# Altium footprint library adafruit.PCBLIB: 630 footprints (part 4 of 40)
Each footprint in its own frame and in the unit in brackets; x right, y up, seen from the top. Pads: shape width x height; smd on the part's side, far side on the other; paste and mask are expansions set on the pad; w line width, h text height; cw(c..) or ccw(c..) is an arc to the next point about the centre after c.
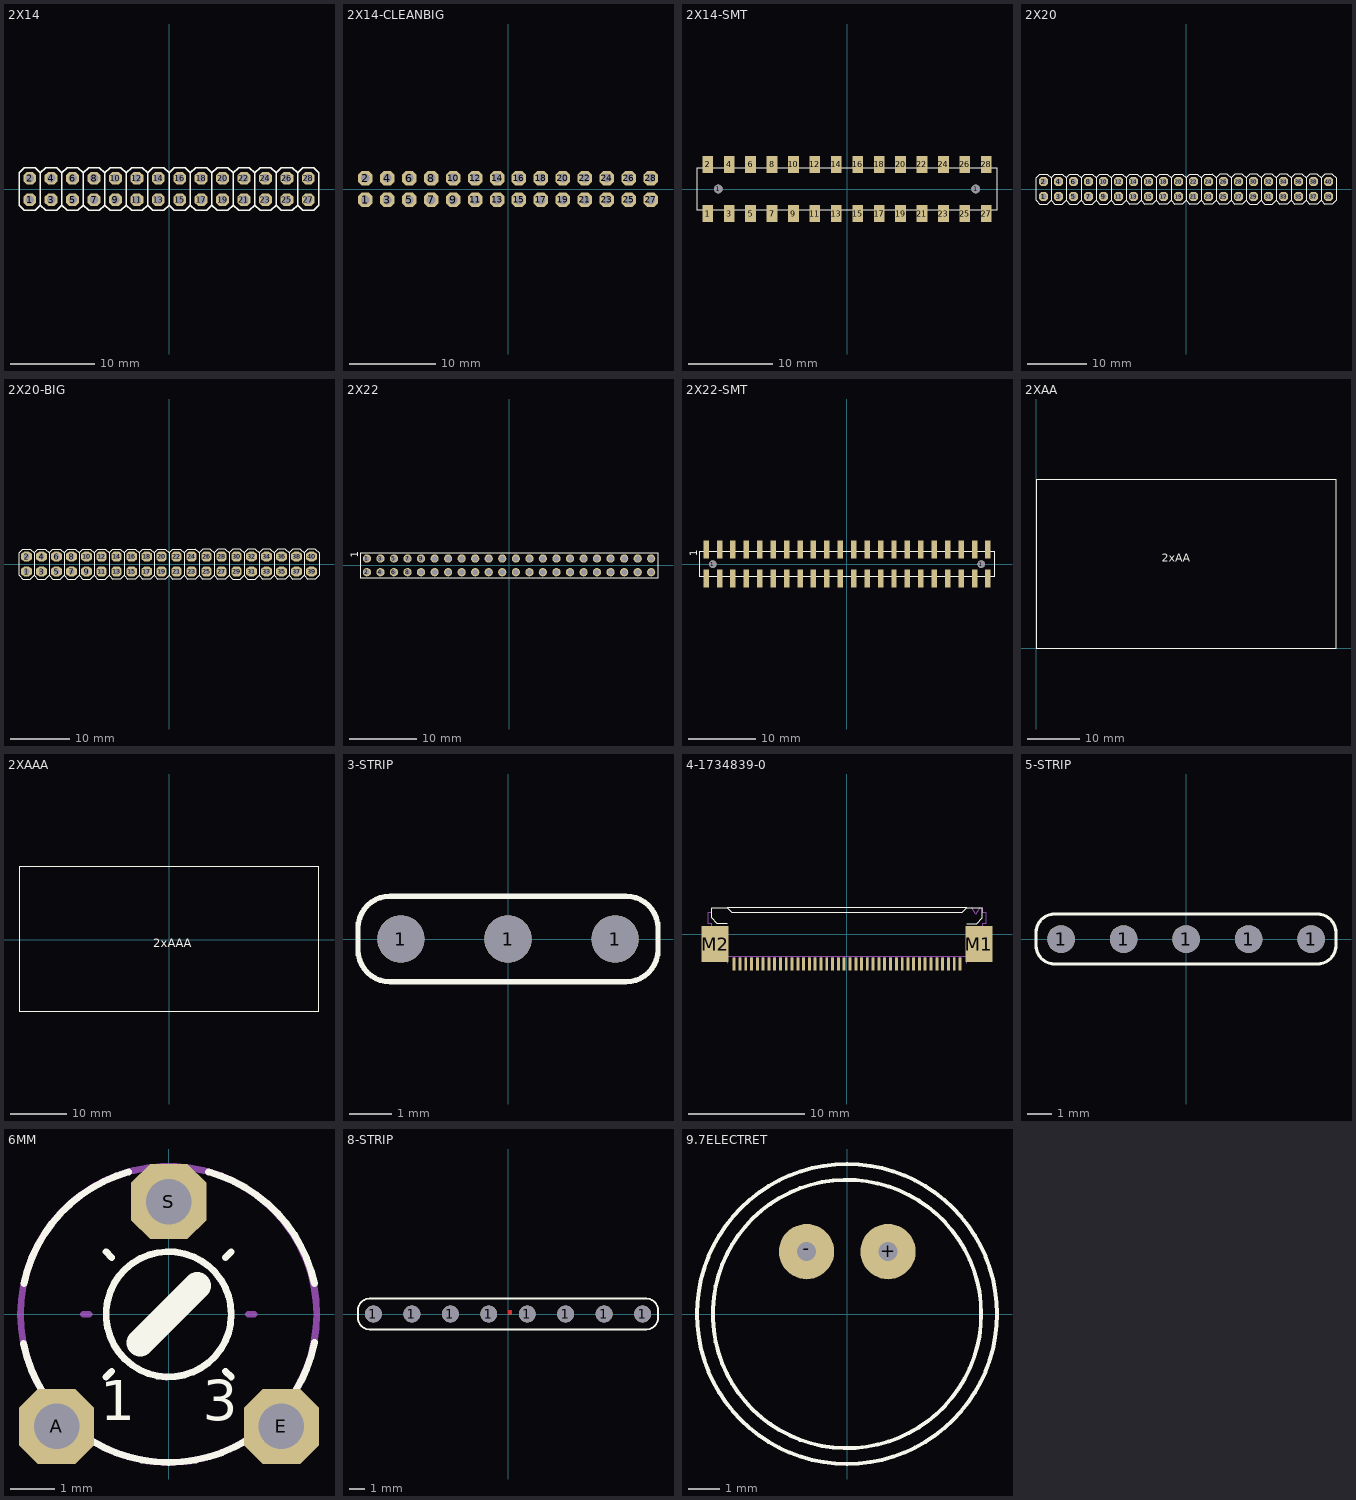
[diagram p3: the footprints below, top view; thin cyan lines are the x and y axes]

## 2X14 [mil]
pads (28):
  oct 60x60 hole 40: 1(-650,-50) 2(-650,50) 3(-550,-50) 4(-550,50) 5(-450,-50) 6(-450,50) 7(-350,-50) 8(-350,50) 9(-250,-50) 10(-250,50) 11(-150,-50) 12(-150,50) 13(-50,-50) 14(-50,50) 15(50,-50) 16(50,50) 17(150,-50) 18(150,50) 19(250,-50) 20(250,50) 21(350,-50) 22(350,50) 23(450,-50) 24(450,50) 25(550,-50) 26(550,50) 27(650,-50) 28(650,50)
Top Overlay:
  lines w6: -600,-75 -625,-100 -675,-100 -700,-75 -700,75 -675,100 -625,100 -600,75 ; -600,-75 -575,-100 -525,-100 -500,-75 ; -600,-75 -600,75 ; -600,75 -575,100 -525,100 -500,75 ; -500,-75 -475,-100 -425,-100 -400,-75 ; -500,-75 -500,75 ; -500,75 -475,100 -425,100 -400,75 ; -400,-75 -375,-100 -325,-100 -300,-75 ; -400,-75 -400,75 ; -400,75 -375,100 -325,100 -300,75 ; -300,-75 -275,-100 -225,-100 -200,-75 ; -300,-75 -300,75 ; -300,75 -275,100 -225,100 -200,75 ; -200,-75 -175,-100 -125,-100 -100,-75 ; -200,-75 -200,75 ; -200,75 -175,100 -125,100 -100,75 ; -100,-75 -75,-100 -25,-100 0,-75 ; -100,-75 -100,75 ; -100,75 -75,100 -25,100 0,75 ; 0,-75 25,-100 75,-100 100,-75 ; 0,-75 0,75 ; 0,75 25,100 75,100 100,75 ; 100,-75 125,-100 175,-100 200,-75 ; 100,-75 100,75 ; 100,75 125,100 175,100 200,75 ; 200,-75 225,-100 275,-100 300,-75 ; 200,-75 200,75 ; 200,75 225,100 275,100 300,75 ; 300,-75 325,-100 375,-100 400,-75 ; 300,-75 300,75 ; 300,75 325,100 375,100 400,75 ; 400,-75 425,-100 475,-100 500,-75 ; 400,-75 400,75 ; 400,75 425,100 475,100 500,75 ; 500,-75 525,-100 575,-100 600,-75 ; 500,-75 500,75 ; 500,75 525,100 575,100 600,75 ; 600,-75 600,75 ; 600,-75 625,-100 675,-100 700,-75 700,75 675,100 625,100 600,75
Mechanical 16:
  rectangle: -660,-60 -640,-40
  rectangle: -660,40 -640,60
  rectangle: -560,40 -540,60
  rectangle: -560,-60 -540,-40
  rectangle: -460,40 -440,60
  rectangle: -460,-60 -440,-40
  rectangle: -360,40 -340,60
  rectangle: -260,40 -240,60
  rectangle: -160,40 -140,60
  rectangle: -360,-60 -340,-40
  rectangle: -260,-60 -240,-40
  rectangle: -160,-60 -140,-40
  rectangle: -60,40 -40,60
  rectangle: -60,-60 -40,-40
  rectangle: 40,40 60,60
  rectangle: 40,-60 60,-40
  rectangle: 140,40 160,60
  rectangle: 140,-60 160,-40
  rectangle: 240,40 260,60
  rectangle: 240,-60 260,-40
  rectangle: 340,40 360,60
  rectangle: 340,-60 360,-40
  rectangle: 440,40 460,60
  rectangle: 440,-60 460,-40
  rectangle: 540,40 560,60
  rectangle: 540,-60 560,-40
  rectangle: 640,40 660,60
  rectangle: 640,-60 660,-40

## 2X14-CLEANBIG [mil]
pads (28):
  oct 66x66 hole 40: 1(-650,-50) 2(-650,50) 3(-550,-50) 4(-550,50) 5(-450,-50) 6(-450,50) 7(-350,-50) 8(-350,50) 9(-250,-50) 10(-250,50) 11(-150,-50) 12(-150,50) 13(-50,-50) 14(-50,50) 15(50,-50) 16(50,50) 17(150,-50) 18(150,50) 19(250,-50) 20(250,50) 21(350,-50) 22(350,50) 23(450,-50) 24(450,50) 25(550,-50) 26(550,50) 27(650,-50) 28(650,50)
Mechanical 16:
  rectangle: -660,-60 -640,-40
  rectangle: -660,40 -640,60
  rectangle: -560,40 -540,60
  rectangle: -560,-60 -540,-40
  rectangle: -460,40 -440,60
  rectangle: -460,-60 -440,-40
  rectangle: -360,40 -340,60
  rectangle: -260,40 -240,60
  rectangle: -160,40 -140,60
  rectangle: -360,-60 -340,-40
  rectangle: -260,-60 -240,-40
  rectangle: -160,-60 -140,-40
  rectangle: -60,40 -40,60
  rectangle: -60,-60 -40,-40
  rectangle: 40,40 60,60
  rectangle: 40,-60 60,-40
  rectangle: 140,40 160,60
  rectangle: 140,-60 160,-40
  rectangle: 240,-60 260,-40
  rectangle: 240,40 260,60
  rectangle: 340,-60 360,-40
  rectangle: 340,40 360,60
  rectangle: 440,-60 460,-40
  rectangle: 440,40 460,60
  rectangle: 540,-60 560,-40
  rectangle: 540,40 560,60
  rectangle: 640,-60 660,-40
  rectangle: 640,40 660,60

## 2X14-SMT [mil]
pads (30):
  rect 50x80 smd: 1(-650,-115) 2(-650,115) 3(-550,-115) 4(-550,115) 5(-450,-115) 6(-450,115) 7(-350,-115) 8(-350,115) 9(-250,-115) 10(-250,115) 11(-150,-115) 12(-150,115) 13(-50,-115) 14(-50,115) 15(50,-115) 16(50,115) 17(150,-115) 18(150,115) 19(250,-115) 20(250,115) 21(350,-115) 22(350,115) 23(450,-115) 24(450,115) 25(550,-115) 26(550,115) 27(650,-115) 28(650,115)
  round 40 hole 40: 1(-600,0) 1(600,0)
Top Overlay:
  lines w5: -700,-100 700,-100 700,100 -700,100 -700,-100

## 2X20 [mil]
pads (40):
  oct 60x60 hole 40: 1(-950,-50) 2(-950,50) 3(-850,-50) 4(-850,50) 5(-750,-50) 6(-750,50) 7(-650,-50) 8(-650,50) 9(-550,-50) 10(-550,50) 11(-450,-50) 12(-450,50) 13(-350,-50) 14(-350,50) 15(-250,-50) 16(-250,50) 17(-150,-50) 18(-150,50) 19(-50,-50) 20(-50,50) 21(50,-50) 22(50,50) 23(150,-50) 24(150,50) 25(250,-50) 26(250,50) 27(350,-50) 28(350,50) 29(450,-50) 30(450,50) 31(550,-50) 32(550,50) 33(650,-50) 34(650,50) 35(750,-50) 36(750,50) 37(850,-50) 38(850,50) 39(950,-50) 40(950,50)
Top Overlay:
  lines w6: -900,-75 -925,-100 -975,-100 -1000,-75 -1000,75 -975,100 -925,100 -900,75 ; -900,-75 -875,-100 -825,-100 -800,-75 ; -900,-75 -900,75 ; -900,75 -875,100 -825,100 -800,75 ; -800,-75 -775,-100 -725,-100 -700,-75 ; -800,-75 -800,75 ; -800,75 -775,100 -725,100 -700,75 ; -700,-75 -675,-100 -625,-100 -600,-75 ; -700,-75 -700,75 ; -700,75 -675,100 -625,100 -600,75 ; -600,-75 -575,-100 -525,-100 -500,-75 ; -600,-75 -600,75 ; -600,75 -575,100 -525,100 -500,75 ; -500,-75 -475,-100 -425,-100 -400,-75 ; -500,-75 -500,75 ; -500,75 -475,100 -425,100 -400,75 ; -400,-75 -375,-100 -325,-100 -300,-75 ; -400,-75 -400,75 ; -400,75 -375,100 -325,100 -300,75 ; -300,-75 -275,-100 -225,-100 -200,-75 ; -300,-75 -300,75 ; -300,75 -275,100 -225,100 -200,75 ; -200,-75 -175,-100 -125,-100 -100,-75 ; -200,-75 -200,75 ; -200,75 -175,100 -125,100 -100,75 ; -100,-75 -75,-100 -25,-100 0,-75 ; -100,-75 -100,75 ; -100,75 -75,100 -25,100 0,75 ; 0,-75 25,-100 75,-100 100,-75 ; 0,-75 0,75 ; 0,75 25,100 75,100 100,75 ; 100,-75 125,-100 175,-100 200,-75 ; 100,-75 100,75 ; 100,75 125,100 175,100 200,75 ; 200,-75 225,-100 275,-100 300,-75 ; 200,-75 200,75 ; 200,75 225,100 275,100 300,75 ; 300,-75 325,-100 375,-100 400,-75 ; 300,-75 300,75 ; 300,75 325,100 375,100 400,75 ; 400,-75 425,-100 475,-100 500,-75 ; 400,-75 400,75 ; 400,75 425,100 475,100 500,75 ; 500,-75 525,-100 575,-100 600,-75 ; 500,-75 500,75 ; 500,75 525,100 575,100 600,75 ; 600,-75 625,-100 675,-100 700,-75 ; 600,-75 600,75 ; 600,75 625,100 675,100 700,75 ; 700,-75 725,-100 775,-100 800,-75 ; 700,-75 700,75 ; 700,75 725,100 775,100 800,75 ; 800,-75 825,-100 875,-100 900,-75 ; 800,-75 800,75 ; 800,75 825,100 875,100 900,75 ; 900,-75 900,75 ; 900,-75 925,-100 975,-100 1000,-75 1000,75 975,100 925,100 900,75
Mechanical 16:
  rectangle: -960,-60 -940,-40
  rectangle: -960,40 -940,60
  rectangle: -860,40 -840,60
  rectangle: -860,-60 -840,-40
  rectangle: -760,40 -740,60
  rectangle: -760,-60 -740,-40
  rectangle: -660,40 -640,60
  rectangle: -560,40 -540,60
  rectangle: -460,40 -440,60
  rectangle: -660,-60 -640,-40
  rectangle: -560,-60 -540,-40
  rectangle: -460,-60 -440,-40
  rectangle: -360,40 -340,60
  rectangle: -360,-60 -340,-40
  rectangle: -260,40 -240,60
  rectangle: -260,-60 -240,-40
  rectangle: -160,40 -140,60
  rectangle: -160,-60 -140,-40
  rectangle: -60,40 -40,60
  rectangle: -60,-60 -40,-40
  rectangle: 40,40 60,60
  rectangle: 40,-60 60,-40
  rectangle: 140,40 160,60
  rectangle: 140,-60 160,-40
  rectangle: 240,40 260,60
  rectangle: 240,-60 260,-40
  rectangle: 340,40 360,60
  rectangle: 340,-60 360,-40
  rectangle: 440,40 460,60
  rectangle: 440,-60 460,-40
  rectangle: 540,40 560,60
  rectangle: 540,-60 560,-40
  rectangle: 640,40 660,60
  rectangle: 640,-60 660,-40
  rectangle: 740,40 760,60
  rectangle: 740,-60 760,-40
  rectangle: 840,40 860,60
  rectangle: 840,-60 860,-40
  rectangle: 940,40 960,60
  rectangle: 940,-60 960,-40

## 2X20-BIG [mil]
pads (40):
  oct 70x70 hole 40: 1(-950,-50) 2(-950,50) 3(-850,-50) 4(-850,50) 5(-750,-50) 6(-750,50) 7(-650,-50) 8(-650,50) 9(-550,-50) 10(-550,50) 11(-450,-50) 12(-450,50) 13(-350,-50) 14(-350,50) 15(-250,-50) 16(-250,50) 17(-150,-50) 18(-150,50) 19(-50,-50) 20(-50,50) 21(50,-50) 22(50,50) 23(150,-50) 24(150,50) 25(250,-50) 26(250,50) 27(350,-50) 28(350,50) 29(450,-50) 30(450,50) 31(550,-50) 32(550,50) 33(650,-50) 34(650,50) 35(750,-50) 36(750,50) 37(850,-50) 38(850,50) 39(950,-50) 40(950,50)
Top Overlay:
  lines w6: -900,-75 -925,-100 -975,-100 -1000,-75 -1000,75 -975,100 -925,100 -900,75 ; -900,-75 -875,-100 -825,-100 -800,-75 ; -900,-75 -900,75 ; -900,75 -875,100 -825,100 -800,75 ; -800,-75 -775,-100 -725,-100 -700,-75 ; -800,-75 -800,75 ; -800,75 -775,100 -725,100 -700,75 ; -700,-75 -675,-100 -625,-100 -600,-75 ; -700,-75 -700,75 ; -700,75 -675,100 -625,100 -600,75 ; -600,-75 -575,-100 -525,-100 -500,-75 ; -600,-75 -600,75 ; -600,75 -575,100 -525,100 -500,75 ; -500,-75 -475,-100 -425,-100 -400,-75 ; -500,-75 -500,75 ; -500,75 -475,100 -425,100 -400,75 ; -400,-75 -375,-100 -325,-100 -300,-75 ; -400,-75 -400,75 ; -400,75 -375,100 -325,100 -300,75 ; -300,-75 -275,-100 -225,-100 -200,-75 ; -300,-75 -300,75 ; -300,75 -275,100 -225,100 -200,75 ; -200,-75 -175,-100 -125,-100 -100,-75 ; -200,-75 -200,75 ; -200,75 -175,100 -125,100 -100,75 ; -100,-75 -75,-100 -25,-100 0,-75 ; -100,-75 -100,75 ; -100,75 -75,100 -25,100 0,75 ; 0,-75 25,-100 75,-100 100,-75 ; 0,-75 0,75 ; 0,75 25,100 75,100 100,75 ; 100,-75 125,-100 175,-100 200,-75 ; 100,-75 100,75 ; 100,75 125,100 175,100 200,75 ; 200,-75 225,-100 275,-100 300,-75 ; 200,-75 200,75 ; 200,75 225,100 275,100 300,75 ; 300,-75 325,-100 375,-100 400,-75 ; 300,-75 300,75 ; 300,75 325,100 375,100 400,75 ; 400,-75 425,-100 475,-100 500,-75 ; 400,-75 400,75 ; 400,75 425,100 475,100 500,75 ; 500,-75 525,-100 575,-100 600,-75 ; 500,-75 500,75 ; 500,75 525,100 575,100 600,75 ; 600,-75 625,-100 675,-100 700,-75 ; 600,-75 600,75 ; 600,75 625,100 675,100 700,75 ; 700,-75 725,-100 775,-100 800,-75 ; 700,-75 700,75 ; 700,75 725,100 775,100 800,75 ; 800,-75 825,-100 875,-100 900,-75 ; 800,-75 800,75 ; 800,75 825,100 875,100 900,75 ; 900,-75 900,75 ; 900,-75 925,-100 975,-100 1000,-75 1000,75 975,100 925,100 900,75
Mechanical 16:
  rectangle: -960,-60 -940,-40
  rectangle: -960,40 -940,60
  rectangle: -860,40 -840,60
  rectangle: -860,-60 -840,-40
  rectangle: -760,40 -740,60
  rectangle: -760,-60 -740,-40
  rectangle: -660,40 -640,60
  rectangle: -560,40 -540,60
  rectangle: -460,40 -440,60
  rectangle: -660,-60 -640,-40
  rectangle: -560,-60 -540,-40
  rectangle: -460,-60 -440,-40
  rectangle: -360,40 -340,60
  rectangle: -360,-60 -340,-40
  rectangle: -260,40 -240,60
  rectangle: -260,-60 -240,-40
  rectangle: -160,40 -140,60
  rectangle: -160,-60 -140,-40
  rectangle: -60,40 -40,60
  rectangle: -60,-60 -40,-40
  rectangle: 40,40 60,60
  rectangle: 40,-60 60,-40
  rectangle: 140,40 160,60
  rectangle: 140,-60 160,-40
  rectangle: 240,40 260,60
  rectangle: 240,-60 260,-40
  rectangle: 340,40 360,60
  rectangle: 340,-60 360,-40
  rectangle: 440,40 460,60
  rectangle: 440,-60 460,-40
  rectangle: 540,40 560,60
  rectangle: 540,-60 560,-40
  rectangle: 640,40 660,60
  rectangle: 640,-60 660,-40
  rectangle: 740,40 760,60
  rectangle: 740,-60 760,-40
  rectangle: 840,40 860,60
  rectangle: 840,-60 860,-40
  rectangle: 940,40 960,60
  rectangle: 940,-60 960,-40

## 2X22 [mil]
pads (44):
  round 48 hole 32: 1(-826.77,40) 2(-826.77,-39.37) 3(-748.03,40) 4(-748.03,-39.37) 5(-669.29,40) 6(-669.29,-39.37) 7(-590.55,40) 8(-590.55,-39.37) 9(-511.81,40) 10(-511.81,-39.37) 11(-433.07,40) 12(-433.07,-39.37) 13(-354.33,40) 14(-354.33,-39.37) 15(-275.59,40) 16(-275.59,-39.37) 17(-196.85,40) 18(-196.85,-39.37) 19(-118.11,40) 20(-118.11,-39.37) 21(-39.37,40) 22(-39.37,-39.37) 23(40,40) 24(40,-39.37) 25(119,40) 26(119,-39.37) 27(197,40) 28(197,-39.37) 29(276,40) 30(276,-39.37) 31(355,40) 32(355,-39.37) 33(434,40) 34(434,-39.37) 35(512,40) 36(512,-39.37) 37(591,40) 38(591,-39.37) 39(670,40) 40(670,-39.37) 41(749,40) 42(749,-39.37) 43(827,40) 44(827,-39.37)
Top Overlay:
  lines w5: -866.14,-71.26 867,-71.26 867,72 -866.14,72 -866.14,-71.26
  text "1" at -878.74,45 h42.5

## 2X22-SMT [mil]
pads (46):
  rect 32x107 smd: 1(-826.77,85) 2(-826.77,-84.65) 3(-748.03,85) 4(-748.03,-84.65) 5(-669.29,85) 6(-669.29,-84.65) 7(-590.55,85) 8(-590.55,-84.65) 9(-511.81,85) 10(-511.81,-84.65) 11(-433.07,85) 12(-433.07,-84.65) 13(-354.33,85) 14(-354.33,-84.65) 15(-275.59,85) 16(-275.59,-84.65) 17(-196.85,85) 18(-196.85,-84.65) 19(-118.11,85) 20(-118.11,-84.65) 21(-39.37,85) 22(-39.37,-84.65) 23(40,85) 24(40,-84.65) 25(119,85) 26(119,-84.65) 27(197,85) 28(197,-84.65) 29(276,85) 30(276,-84.65) 31(355,85) 32(355,-84.65) 33(434,85) 34(434,-84.65) 35(512,85) 36(512,-84.65) 37(591,85) 38(591,-84.65) 39(670,85) 40(670,-84.65) 41(749,85) 42(749,-84.65) 43(827,85) 44(827,-84.65)
  round 44 hole 44: 1(-787.4,0) 1(788,0)
Top Overlay:
  lines w5: -866.14,-71.26 867,-71.26 867,72 -866.14,72 -866.14,-71.26
  text "1" at -878.74,45 h42.5

## 2XAA [mil]
Top Overlay:
  lines w5: 0,0 0,1260 2249,1260 2249,0 0,0
  text "2xAA" at 941,646 h59.5

## 2XAAA [mil]
Top Overlay:
  lines w5: -1050,-500 -1050,510 1049,510 1049,-500 -1050,-500
  text "2xAAA" at -109.06,-54.33 h59.5

## 2XAAA-SIDE [mil]

## 3-STRIP [mil]
pads (3):
  round 44 hole 44: 1(-100,0) 1(0,0) 1(100,0)
Top Layer:
  region: 0,0 10,0 10,10 0,10
Bottom Layer:
  region: 0,0 10,0 10,10 0,10
Top Overlay:
  lines w5: -140,-10 ccw(c-110,-10) -110,-40 110,-40 ccw(c110,-10) 140,-10 140,10 ccw(c110,10) 110,40 -110,40 ccw(c-110,10) -140,10 -140,-10
Top Solder:
  region: 0,0 10,0 10,10 0,10
Bottom Solder:
  region: 0,0 10,0 10,10 0,10

## 4-1734839-0 [mil]
pads (42):
  rect 10x44 smd: 1(-383.86,-100) 2(-364.17,-100) 3(-344.49,-100) 4(-324.8,-100) 5(-305.12,-100) 6(-285.43,-100) 7(-265.75,-100) 8(-246.06,-100) 9(-226.38,-100) 10(-206.69,-100) 11(-187.01,-100) 12(-167.32,-100) 13(-147.64,-100) 14(-127.95,-100) 15(-108.27,-100) 16(-88.58,-100) 17(-68.9,-100) 18(-49.21,-100) 19(-29.53,-100) 20(-9.84,-100) 21(10,-100) 22(30,-100) 23(50,-100) 24(69,-100) 25(89,-100) 26(109,-100) 27(128,-100) 28(148,-100) 29(168,-100) 30(188,-100) 31(207,-100) 32(227,-100) 33(247,-100) 34(266,-100) 35(286,-100) 36(306,-100) 37(325,-100) 38(345,-100) 39(365,-100) 40(384,-100)
  rect 91x123 smd: M1(449,-33.07) M2(-448.82,-33.07)
Top Overlay:
  lines w4: -460.63,89 -460.63,56 -440.94,36 -407.48,36 ; -460.63,91 -407.48,91 ; 408,36 441,36 461,56 461,89 ; 461,91 408,91 ; -407.48,91 -391.73,76 392,76 408,91 ; -407.48,91 408,91
Top Solder:
  region: 378.59,-77.5 378.59,-122.5 390.41,-122.5 390.41,-77.5
  region: 358.59,-77.5 358.59,-122.5 370.41,-122.5 370.41,-77.5
  region: 339.09,-77 339.09,-123 350.91,-123 350.91,-77
  region: 319.59,-77.5 319.59,-122.5 331.41,-122.5 331.41,-77.5
  region: 299.59,-77.5 299.59,-122.5 311.41,-122.5 311.41,-77.5
  region: 280.09,-77 280.09,-123 291.91,-123 291.91,-77
  region: 260.59,-77.5 260.59,-122.5 272.41,-122.5 272.41,-77.5
  region: 240.59,-77.5 240.59,-122.5 252.41,-122.5 252.41,-77.5
  region: 221.09,-77 221.09,-123 232.91,-123 232.91,-77
  region: 201.59,-77.5 201.59,-122.5 213.41,-122.5 213.41,-77.5
  region: 181.59,-77.5 181.59,-122.5 193.41,-122.5 193.41,-77.5
  region: 161.59,-77.5 161.59,-122.5 173.41,-122.5 173.41,-77.5
  region: 142.09,-77 142.09,-123 153.91,-123 153.91,-77
  region: 122.59,-77.5 122.59,-122.5 134.41,-122.5 134.41,-77.5
  region: 102.59,-77.5 102.59,-122.5 114.41,-122.5 114.41,-77.5
  region: 83.09,-77 83.09,-123 94.91,-123 94.91,-77
  region: 63.59,-77.5 63.59,-122.5 75.41,-122.5 75.41,-77.5
  region: 43.59,-77.5 43.59,-122.5 55.41,-122.5 55.41,-77.5
  region: 24.09,-77 24.09,-123 35.91,-123 35.91,-77
  region: 4.2,-77.1 4.2,-122.9 16.01,-122.9 16.01,-77.1
  region: -15.65,-77.26 -15.65,-122.74 -3.83,-122.74 -3.83,-77.26
  region: -35.43,-77.36 -35.43,-122.64 -23.62,-122.64 -23.62,-77.36
  region: -55.12,-77.36 -55.12,-122.64 -43.31,-122.64 -43.31,-77.36
  region: -74.8,-77.36 -74.8,-122.64 -62.99,-122.64 -62.99,-77.36
  region: -94.49,-77.36 -94.49,-122.64 -82.68,-122.64 -82.68,-77.36
  region: -114.17,-77.36 -114.17,-122.64 -102.36,-122.64 -102.36,-77.36
  region: -133.86,-77.36 -133.86,-122.64 -122.05,-122.64 -122.05,-77.36
  region: -153.54,-77.36 -153.54,-122.64 -141.73,-122.64 -141.73,-77.36
  region: -173.23,-77.36 -173.23,-122.64 -161.42,-122.64 -161.42,-77.36
  region: -192.91,-77.36 -192.91,-122.64 -181.1,-122.64 -181.1,-77.36
  region: -212.6,-77.36 -212.6,-122.64 -200.79,-122.64 -200.79,-77.36
  region: -232.28,-77.36 -232.28,-122.64 -220.47,-122.64 -220.47,-77.36
  region: -251.97,-77.36 -251.97,-122.64 -240.16,-122.64 -240.16,-77.36
  region: -271.65,-77.36 -271.65,-122.64 -259.84,-122.64 -259.84,-77.36
  region: -291.34,-77.36 -291.34,-122.64 -279.53,-122.64 -279.53,-77.36
  region: -311.02,-77.36 -311.02,-122.64 -299.21,-122.64 -299.21,-77.36
  region: -330.71,-77.36 -330.71,-122.64 -318.9,-122.64 -318.9,-77.36
  region: -350.39,-77.36 -350.39,-122.64 -338.58,-122.64 -338.58,-77.36
  region: -370.08,-77.36 -370.08,-122.64 -358.27,-122.64 -358.27,-77.36
  region: -389.76,-77.36 -389.76,-122.64 -377.95,-122.64 -377.95,-77.36
Mechanical 16:
  region: 381.55,-77.09 381.55,-112.09 387.45,-112.09 387.45,-77.09
  region: 361.55,-77.09 361.55,-112.09 367.45,-112.09 367.45,-77.09
  region: 342.05,-77.59 342.05,-111.59 347.95,-111.59 347.95,-77.59
  region: 322.55,-77.09 322.55,-112.09 328.45,-112.09 328.45,-77.09
  region: 302.55,-77.09 302.55,-112.09 308.45,-112.09 308.45,-77.09
  region: 283.05,-77.59 283.05,-111.59 288.95,-111.59 288.95,-77.59
  region: 263.05,-77.59 263.05,-111.59 268.95,-111.59 268.95,-77.59
  region: 243.55,-77.09 243.55,-112.09 249.45,-112.09 249.45,-77.09
  region: 224.05,-77.59 224.05,-111.59 229.95,-111.59 229.95,-77.59
  region: 204.05,-77.59 204.05,-111.59 209.95,-111.59 209.95,-77.59
  region: 184.55,-77.09 184.55,-112.09 190.45,-112.09 190.45,-77.09
  region: 165.05,-77.59 165.05,-111.59 170.95,-111.59 170.95,-77.59
  region: 145.05,-77.59 145.05,-111.59 150.95,-111.59 150.95,-77.59
  region: 125.55,-77.09 125.55,-112.09 131.45,-112.09 131.45,-77.09
  region: 106.05,-77.59 106.05,-111.59 111.95,-111.59 111.95,-77.59
  region: 86.05,-77.59 86.05,-111.59 91.95,-111.59 91.95,-77.59
  region: 66.55,-77.09 66.55,-112.09 72.45,-112.09 72.45,-77.09
  region: 46.55,-77.09 46.55,-112.09 52.45,-112.09 52.45,-77.09
  region: 27.05,-77.59 27.05,-111.59 32.95,-111.59 32.95,-77.59
  region: 7.36,-76.9 7.36,-112.28 13.26,-112.28 13.26,-76.9
  region: -12.49,-77.05 -12.49,-112.12 -6.58,-112.12 -6.58,-77.05
  region: -32.48,-77.36 -32.48,-111.81 -26.57,-111.81 -26.57,-77.36
  region: -52.17,-77.36 -52.17,-111.81 -46.26,-111.81 -46.26,-77.36
  region: -71.85,-77.36 -71.85,-111.81 -65.94,-111.81 -65.94,-77.36
  region: -91.54,-77.36 -91.54,-111.81 -85.63,-111.81 -85.63,-77.36
  region: -111.22,-77.36 -111.22,-111.81 -105.31,-111.81 -105.31,-77.36
  region: -130.91,-77.36 -130.91,-111.81 -125,-111.81 -125,-77.36
  region: -150.59,-77.36 -150.59,-111.81 -144.69,-111.81 -144.69,-77.36
  region: -170.28,-77.36 -170.28,-111.81 -164.37,-111.81 -164.37,-77.36
  region: -189.96,-77.36 -189.96,-111.81 -184.06,-111.81 -184.06,-77.36
  region: -209.65,-77.36 -209.65,-111.81 -203.74,-111.81 -203.74,-77.36
  region: -229.33,-77.36 -229.33,-111.81 -223.43,-111.81 -223.43,-77.36
  region: -249.02,-77.36 -249.02,-111.81 -243.11,-111.81 -243.11,-77.36
  region: -268.7,-77.36 -268.7,-111.81 -262.8,-111.81 -262.8,-77.36
  region: -288.39,-77.36 -288.39,-111.81 -282.48,-111.81 -282.48,-77.36
  region: -308.07,-77.36 -308.07,-111.81 -302.17,-111.81 -302.17,-77.36
  region: -327.76,-77.36 -327.76,-111.81 -321.85,-111.81 -321.85,-77.36
  region: -347.44,-77.36 -347.44,-111.81 -341.54,-111.81 -341.54,-77.36
  region: -367.13,-77.36 -367.13,-111.81 -361.22,-111.81 -361.22,-77.36
  region: -386.81,-77.36 -386.81,-111.81 -380.91,-111.81 -380.91,-77.36
  lines w4: -460.63,19 -460.63,36 -472.44,36 -472.44,76 -460.63,76 -460.63,91 ; -407.48,-98.03 -407.48,-75.39 408,-75.39 408,-98.03 ; 424,91 438,68 451,91 ; 461,19 461,36 473,36 473,76 461,76 461,91

## 5-STRIP [mil]
pads (5):
  round 44 hole 44: 1(-200,0) 1(-100,0) 1(0,0) 1(100,0) 1(200,0)
Top Layer:
  region: 0,0 10,0 10,10 0,10
Bottom Layer:
  region: 0,0 10,0 10,10 0,10
Top Overlay:
  lines w5: -240,-10 ccw(c-210,-10) -210,-40 210,-40 ccw(c210,-10) 240,-10 240,10 ccw(c210,10) 210,40 -210,40 ccw(c-210,10) -240,10 -240,-10
Top Solder:
  region: 0,0 10,0 10,10 0,10
Bottom Solder:
  region: 0,0 10,0 10,10 0,10

## 6MM [mil]
pads (3):
  oct 66x66 hole 40: A(-98.43,-98.43) E(99,-98.43) S(0,99)
Top Overlay:
  circle w6: c0,0 r55
  lines w6: -127.48,-25.5 ccw(c0,0) 0,-130 ccw(c0.17,0.2) 128,-24.55 ; -127.08,27 cw(c-0.43,0.26) -35,125 ; -55,-55 -50,-50 ; -55,55 -50,50 ; 35,125 cw(c0.89,-0.5) 128,27 ; 50,-50 55,-55 ; 50,50 55,55
  lines w24: -25,-25 25,25
  text "3" at 30,-105 h60.45
  text "1" at -60,-105 h60.45
Mechanical 16:
  circle w6: c0,0 r130
  lines w6: -75,0 -70,0 ; 0,70 0,75 ; 70,0 75,0

## 8-STRIP [mil]
pads (8):
  round 44 hole 44: 1(-350,0) 1(-250,0) 1(-150,0) 1(-50,0) 1(50,0) 1(150,0) 1(250,0) 1(350,0)
Top Layer:
  region: 0,0 10,0 10,10 0,10
Bottom Layer:
  region: 0,0 10,0 10,10 0,10
Top Overlay:
  lines w5: -390,-10 ccw(c-360,-10) -360,-40 360,-40 ccw(c360,-10) 390,-10 390,10 ccw(c360,10) 360,40 -360,40 ccw(c-360,10) -390,10 -390,-10
Top Solder:
  region: 0,0 10,0 10,10 0,10
Bottom Solder:
  region: 0,0 10,0 10,10 0,10

## 9.7ELECTRET [mil]
pads (2):
  round 70 hole 24: +(52,79) -(-51.18,79)
Top Overlay:
  circle w5: c0,0 r190
  circle w5: c0,0 r170